# EAGLE library part STM32F103TBU (library stm32)
Medium-density performance line Arm®-based 32-bit MCU with 64 or 128 KB Flash, USB, CAN, 7 timers, 2 ADCs, 9 com. interfaces
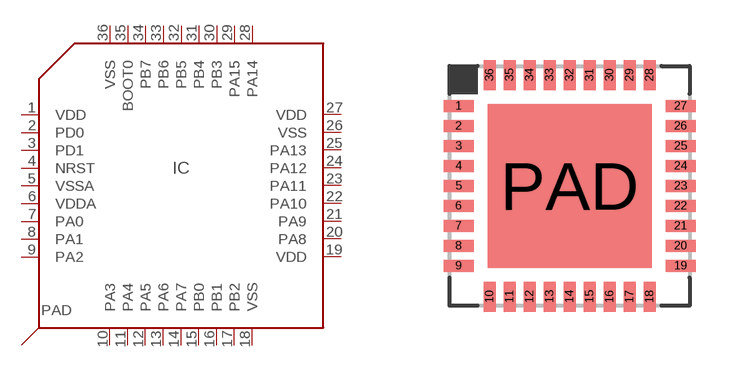
[diagram p0: symbol with the pads of VFQFPN36(6X6); footprint VFQFPN36(6X6)]

Designator prefix IC

## STM32F103TBU-VFQFPN36 (MANF: STMicroelectronics; MANF#: STM32F103TBU6)  [VFQFPN36(6X6)]
1  VDD
2  PD0
3  PD1
4  NRST
5  VSSA
6  VDDA
7  PA0
8  PA1
9  PA2
10  PA3
11  PA4
12  PA5
13  PA6
14  PA7
15  PB0
16  PB1
17  PB2
18  VSS
19  VDD
20  PA8
21  PA9
22  PA10
23  PA11
24  PA12
25  PA13
26  VSS
27  VDD
28  PA14
29  PA15
30  PB3
31  PB4
32  PB5
33  PB6
34  PB7
35  BOOT0
36  VSS
PAD  PAD

## Footprint VFQFPN36(6X6) (pad centres in mm)
smd 0.75 x 0.3: 1 -2.775,2; 2 -2.775,1.5; 3 -2.775,1; 4 -2.775,0.5; 5 -2.775,0; 6 -2.775,-0.5; 7 -2.775,-1; 8 -2.775,-1.5; 9 -2.775,-2; 19 2.775,-2; 20 2.775,-1.5; 21 2.775,-1; 22 2.775,-0.5; 23 2.775,0; 24 2.775,0.5; 25 2.775,1; 26 2.775,1.5; 27 2.775,2
smd 0.3 x 0.75: 10 -2,-2.775; 11 -1.5,-2.775; 12 -1,-2.775; 13 -0.5,-2.775; 14 0,-2.775; 15 0.5,-2.775; 16 1,-2.775; 17 1.5,-2.775; 18 2,-2.775; 28 2,2.775; 29 1.5,2.775; 30 1,2.775; 31 0.5,2.775; 32 0,2.775; 33 -0.5,2.775; 34 -1,2.775; 35 -1.5,2.775; 36 -2,2.775
smd 4.1 x 4.1: PAD 0,0